# Altium footprint library default.PcbLib: 20 footprints (part 2 of 2)
Each footprint in its own frame and in the unit in brackets; x right, y up, seen from the top. Pads: shape width x height; smd on the part's side, far side on the other; paste and mask are expansions set on the pad; w line width, h text height; cw(c..) or ccw(c..) is an arc to the next point about the centre after c.
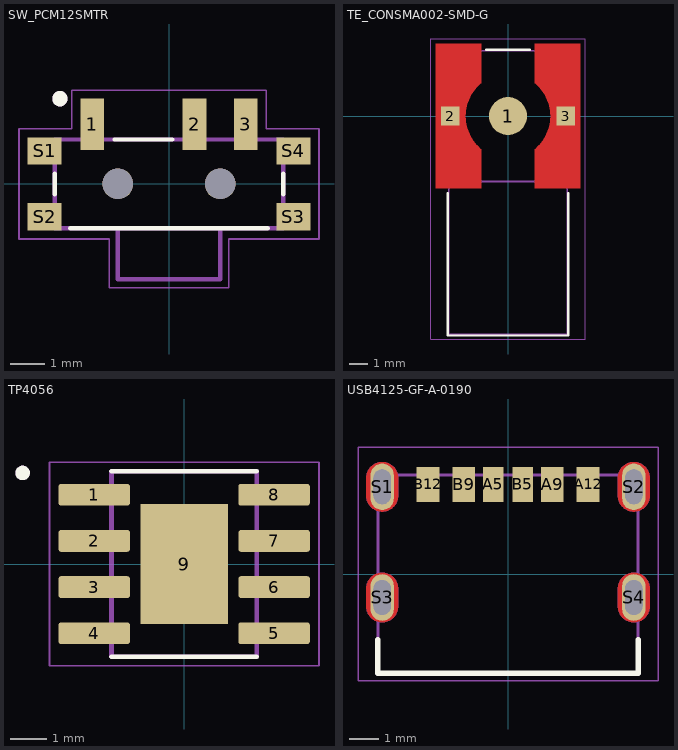
[diagram p1: the footprints below, top view; thin cyan lines are the x and y axes]

## SW_PCM12SMTR [mm]
pads (9):
  rect 0.7x1.5 smd: 1(-2.25,1.75) 2(0.75,1.75) 3(2.25,1.75)
  rect 1x0.8 smd: S1(-3.65,0.965) S2(-3.65,-0.965) S3(3.65,-0.965) S4(3.65,0.965)
  round 0.9 hole 0.9 unplated: ""(-1.5,0) ""(1.5,0)
Top Overlay:
  circle w0.25: c-3.2,2.5 r0.1
  lines w0.127: -3.35,-0.3 -3.35,0.3 ; -2.9,-1.3 2.9,-1.3 ; -1.6,1.3 0.1,1.3 ; 3.35,-0.3 3.35,0.3
Top 3D Body (Mech13):
  circle w0.25: c-3.2,2.5 r0.1
  lines w0.127: -1.5,-1.3 -1.5,-2.8 1.5,-2.8 1.5,-1.3 ; -1.5,-1.3 -3.35,-1.3 -3.35,1.3 3.35,1.3 3.35,-1.3 1.5,-1.3 ; -1.5,-1.3 1.5,-1.3
Top Courtyard:
  lines w0.05: -4.4,-1.615 -4.4,1.615 -2.85,1.615 -2.85,2.75 2.85,2.75 2.85,1.615 4.4,1.615 4.4,-1.615 1.75,-1.615 1.75,-3.05 -1.75,-3.05 -1.75,-1.615 -4.4,-1.615
3D body "step_temp.STEP": height 1.4, standoff -0.51, extent -3.861,-2.794 3.861,2.184

## TE_CONSMA002-SMD-G [mm]
pads (3):
  round 2.05 smd: 1(0,0)
  rect 1x1 smd paste-1 mask+0: 2(-3.1,0) 3(3.1,0)
Top Layer:
  region: -1.44,1.77 -1.503,1.716 -1.553,1.67 -1.601,1.623 -1.648,1.575 -1.694,1.525 -1.738,1.474 -1.78,1.422 -1.821,1.368 -1.861,1.314 -1.899,1.258 -1.935,1.201 -1.97,1.143 -2.002,1.084 -2.033,1.025 -2.063,0.964 -2.09,0.902 -2.116,0.84 -2.14,0.777 -2.162,0.713 -2.183,0.649 -2.201,0.584 -2.218,0.519 -2.232,0.453 -2.245,0.387 -2.256,0.32 -2.264,0.253 -2.271,0.186 -2.276,0.119 -2.279,0.052 -2.28,0 -2.279,-0.052 -2.276,-0.119 -2.271,-0.186 -2.264,-0.253 -2.256,-0.32 -2.245,-0.387 -2.232,-0.453 -2.218,-0.519 -2.201,-0.584 -2.183,-0.649 -2.162,-0.713 -2.14,-0.777 -2.116,-0.84 -2.09,-0.902 -2.063,-0.964 -2.033,-1.025 -2.002,-1.084 -1.97,-1.143 -1.935,-1.201 -1.899,-1.258 -1.861,-1.314 -1.821,-1.368 -1.78,-1.422 -1.738,-1.474 -1.694,-1.525 -1.648,-1.575 -1.601,-1.623 -1.553,-1.67 -1.503,-1.716 -1.44,-1.77 -1.44,-3.88 -3.88,-3.88 -3.88,3.88 -1.44,3.88
  region: 3.88,-3.88 1.44,-3.88 1.44,-1.77 1.503,-1.716 1.553,-1.67 1.601,-1.623 1.648,-1.575 1.694,-1.525 1.738,-1.474 1.78,-1.422 1.821,-1.368 1.861,-1.314 1.899,-1.258 1.935,-1.201 1.97,-1.143 2.002,-1.084 2.033,-1.025 2.063,-0.964 2.09,-0.902 2.116,-0.84 2.14,-0.777 2.162,-0.713 2.183,-0.649 2.201,-0.584 2.218,-0.519 2.232,-0.453 2.245,-0.387 2.256,-0.32 2.264,-0.253 2.271,-0.186 2.276,-0.119 2.279,-0.052 2.28,0 2.279,0.052 2.276,0.119 2.271,0.186 2.264,0.253 2.256,0.32 2.245,0.387 2.232,0.453 2.218,0.519 2.201,0.584 2.183,0.649 2.162,0.713 2.14,0.777 2.116,0.84 2.09,0.902 2.063,0.964 2.033,1.025 2.002,1.084 1.97,1.143 1.935,1.201 1.899,1.258 1.861,1.314 1.821,1.368 1.78,1.422 1.738,1.474 1.694,1.525 1.648,1.575 1.601,1.623 1.553,1.67 1.503,1.716 1.44,1.77 1.44,2.35 1.44,3.88 3.88,3.88
Top Overlay:
  lines w0.127: -3.238,-4.143 -3.238,-11.763 3.238,-11.763 3.238,-4.143 ; -1.177,3.564 1.177,3.564
Top Paste:
  region: -1.44,1.77 -1.503,1.716 -1.553,1.67 -1.601,1.623 -1.648,1.575 -1.694,1.525 -1.738,1.474 -1.78,1.422 -1.821,1.368 -1.861,1.314 -1.899,1.258 -1.935,1.201 -1.97,1.143 -2.002,1.084 -2.033,1.025 -2.063,0.964 -2.09,0.902 -2.116,0.84 -2.14,0.777 -2.162,0.713 -2.183,0.649 -2.201,0.584 -2.218,0.519 -2.232,0.453 -2.245,0.387 -2.256,0.32 -2.264,0.253 -2.271,0.186 -2.276,0.119 -2.279,0.052 -2.28,0 -2.279,-0.052 -2.276,-0.119 -2.271,-0.186 -2.264,-0.253 -2.256,-0.32 -2.245,-0.387 -2.232,-0.453 -2.218,-0.519 -2.201,-0.584 -2.183,-0.649 -2.162,-0.713 -2.14,-0.777 -2.116,-0.84 -2.09,-0.902 -2.063,-0.964 -2.033,-1.025 -2.002,-1.084 -1.97,-1.143 -1.935,-1.201 -1.899,-1.258 -1.861,-1.314 -1.821,-1.368 -1.78,-1.422 -1.738,-1.474 -1.694,-1.525 -1.648,-1.575 -1.601,-1.623 -1.553,-1.67 -1.503,-1.716 -1.44,-1.77 -1.44,-3.88 -3.88,-3.88 -3.88,3.88 -1.44,3.88
  region: 3.88,-3.88 1.44,-3.88 1.44,-1.77 1.503,-1.716 1.553,-1.67 1.601,-1.623 1.648,-1.575 1.694,-1.525 1.738,-1.474 1.78,-1.422 1.821,-1.368 1.861,-1.314 1.899,-1.258 1.935,-1.201 1.97,-1.143 2.002,-1.084 2.033,-1.025 2.063,-0.964 2.09,-0.902 2.116,-0.84 2.14,-0.777 2.162,-0.713 2.183,-0.649 2.201,-0.584 2.218,-0.519 2.232,-0.453 2.245,-0.387 2.256,-0.32 2.264,-0.253 2.271,-0.186 2.276,-0.119 2.279,-0.052 2.28,0 2.279,0.052 2.276,0.119 2.271,0.186 2.264,0.253 2.256,0.32 2.245,0.387 2.232,0.453 2.218,0.519 2.201,0.584 2.183,0.649 2.162,0.713 2.14,0.777 2.116,0.84 2.09,0.902 2.063,0.964 2.033,1.025 2.002,1.084 1.97,1.143 1.935,1.201 1.899,1.258 1.861,1.314 1.821,1.368 1.78,1.422 1.738,1.474 1.694,1.525 1.648,1.575 1.601,1.623 1.553,1.67 1.503,1.716 1.44,1.77 1.44,3.88 3.88,3.88
Top Solder:
  region: -1.34,1.77 -1.385,1.731 -1.436,1.684 -1.485,1.636 -1.533,1.587 -1.58,1.536 -1.625,1.484 -1.669,1.43 -1.711,1.375 -1.751,1.32 -1.79,1.262 -1.827,1.204 -1.862,1.145 -1.896,1.085 -1.928,1.024 -1.958,0.962 -1.986,0.899 -2.012,0.835 -2.037,0.77 -2.06,0.705 -2.08,0.639 -2.099,0.573 -2.116,0.506 -2.131,0.439 -2.144,0.371 -2.155,0.303 -2.164,0.235 -2.171,0.166 -2.176,0.097 -2.179,0.028 -2.18,-0.05 -2.176,-0.126 -2.171,-0.19 -2.164,-0.254 -2.156,-0.318 -2.145,-0.381 -2.133,-0.444 -2.118,-0.507 -2.102,-0.569 -2.084,-0.631 -2.065,-0.692 -2.043,-0.753 -2.02,-0.813 -1.995,-0.872 -1.968,-0.931 -1.94,-0.988 -1.91,-1.045 -1.878,-1.101 -1.845,-1.156 -1.81,-1.21 -1.774,-1.263 -1.736,-1.315 -1.696,-1.366 -1.655,-1.416 -1.613,-1.464 -1.569,-1.511 -1.524,-1.557 -1.478,-1.602 -1.43,-1.645 -1.381,-1.687 -1.34,-1.72 -1.34,-3.98 -3.98,-3.98 -3.98,3.98 -1.34,3.98
  region: 3.98,-3.98 1.34,-3.98 1.34,-1.72 1.391,-1.677 1.441,-1.633 1.489,-1.588 1.536,-1.542 1.581,-1.494 1.625,-1.445 1.667,-1.395 1.708,-1.343 1.748,-1.29 1.786,-1.237 1.822,-1.182 1.857,-1.126 1.89,-1.069 1.921,-1.011 1.951,-0.952 1.979,-0.892 2.005,-0.832 2.03,-0.771 2.053,-0.709 2.074,-0.647 2.093,-0.584 2.11,-0.52 2.125,-0.456 2.139,-0.391 2.15,-0.327 2.16,-0.261 2.168,-0.196 2.174,-0.13 2.178,-0.065 2.18,0 2.179,0.052 2.176,0.119 2.171,0.186 2.164,0.253 2.156,0.32 2.145,0.387 2.132,0.453 2.118,0.519 2.101,0.584 2.083,0.649 2.062,0.713 2.04,0.777 2.016,0.84 1.99,0.902 1.963,0.964 1.933,1.025 1.902,1.084 1.87,1.143 1.835,1.201 1.799,1.258 1.761,1.314 1.721,1.368 1.68,1.422 1.638,1.474 1.594,1.525 1.548,1.575 1.501,1.623 1.453,1.67 1.403,1.716 1.34,1.77 1.34,3.98 3.98,3.98
Top Assembly:
  lines w0.1: -3.175,-3.5 -3.175,-11.7 3.175,-11.7 3.175,-3.5 ; -3.175,-3.5 -3.5,-3.5 -3.5,3.5 3.5,3.5 3.5,-3.5 3.175,-3.5 ; -3.175,-3.5 3.175,-3.5
Top Designator:
  text ".Designator" at -3.647,-0.357 h1
Top Courtyard:
  lines w0.05: -4.13,-11.95 4.13,-11.95 4.13,4.13 -4.13,4.13 -4.13,-11.95
Top Component Center:
  lines w0.1: -0.5,0 0.5,0 ; 0,-0.5 0,0.5
3D body "step_temp.STEP": height 10.8, standoff 0, extent -3.5,-11.7 3.5,3.5

## TP4056 [mm] "TP4056"
height 1.75
pads (9):
  rrect25% 1.97x0.6 smd: 1(-2.475,1.905) 2(-2.475,0.635) 3(-2.475,-0.635) 4(-2.475,-1.905) 5(2.475,-1.905) 6(2.475,-0.635) 7(2.475,0.635) 8(2.475,1.905)
  rect 2.413x3.302 smd paste-3: 9(0,0)
Top Overlay:
  circle w0.2: c-4.445,2.505 r0.1
  lines w0.127: -2,-2.55 2,-2.55 ; -2,2.55 2,2.55
Top Paste:
  region: 0.645,-0.82 -0.645,-0.82 -0.645,0.82 0.645,0.82
Top 3D Body (Mech13):
  circle w0.2: c-4.445,2.505 r0.1
  lines w0.127: -2,-2.55 2,-2.55 2,2.55 -2,2.55 -2,-2.55
Top Courtyard:
  lines w0.05: -3.71,-2.8 3.71,-2.8 3.71,2.8 -3.71,2.8 -3.71,-2.8
3D body "step_temp.STEP": height 1.75, standoff 0, extent -3,-2.45 3,2.45

## USB4125-GF-A-0190 [mm] "USB C CONNECTOR"
pads (10):
  rect 0.7x1.2 smd: A5(-0.5,3.08) B5(0.5,3.08)
  rect 0.76x1.2 smd: A9(1.52,3.08) B9(-1.52,3.08)
  rect 0.8x1.2 smd: A12(2.75,3.08) B12(-2.75,3.08)
  oval 0.8x1.6 hole 0.6 slot 1.2 at 90 deg mask+0: S1(-4.32,3) S2(4.32,3) S3(-4.32,-0.8) S4(4.32,-0.8)
Top Layer:
  region: -4.291,0.049 -4.263,0.047 -4.234,0.043 -4.206,0.038 -4.178,0.031 -4.15,0.023 -4.123,0.013 -4.096,0.002 -4.07,-0.01 -4.045,-0.024 -4.02,-0.039 -3.997,-0.055 -3.974,-0.073 -3.952,-0.091 -3.931,-0.111 -3.911,-0.132 -3.893,-0.154 -3.875,-0.177 -3.859,-0.2 -3.844,-0.225 -3.83,-0.25 -3.818,-0.276 -3.807,-0.303 -3.797,-0.33 -3.789,-0.358 -3.782,-0.386 -3.777,-0.414 -3.773,-0.443 -3.771,-0.471 -3.77,-0.5 -3.77,-1.1 -3.771,-1.129 -3.773,-1.157 -3.777,-1.186 -3.782,-1.214 -3.789,-1.242 -3.797,-1.27 -3.807,-1.297 -3.818,-1.324 -3.83,-1.35 -3.844,-1.375 -3.859,-1.4 -3.875,-1.423 -3.893,-1.446 -3.911,-1.468 -3.931,-1.489 -3.952,-1.509 -3.974,-1.527 -3.997,-1.545 -4.02,-1.561 -4.045,-1.576 -4.07,-1.59 -4.096,-1.602 -4.123,-1.613 -4.15,-1.623 -4.178,-1.631 -4.206,-1.638 -4.234,-1.643 -4.263,-1.647 -4.291,-1.649 -4.32,-1.65 -4.349,-1.649 -4.377,-1.647 -4.406,-1.643 -4.434,-1.638 -4.462,-1.631 -4.49,-1.623 -4.517,-1.613 -4.544,-1.602 -4.57,-1.59 -4.595,-1.576 -4.62,-1.561 -4.643,-1.545 -4.666,-1.527 -4.688,-1.509 -4.709,-1.489 -4.729,-1.468 -4.747,-1.446 -4.765,-1.423 -4.781,-1.4 -4.796,-1.375 -4.81,-1.35 -4.822,-1.324 -4.833,-1.297 -4.843,-1.27 -4.851,-1.242 -4.858,-1.214 -4.863,-1.186 -4.867,-1.157 -4.869,-1.129 -4.87,-1.1 -4.87,-0.5 -4.869,-0.471 -4.867,-0.443 -4.863,-0.414 -4.858,-0.386 -4.851,-0.358 -4.843,-0.33 -4.833,-0.303 -4.822,-0.276 -4.81,-0.25 -4.796,-0.225 -4.781,-0.2 -4.765,-0.177 -4.747,-0.154 -4.729,-0.132 -4.709,-0.111 -4.688,-0.091 -4.666,-0.073 -4.643,-0.055 -4.62,-0.039 -4.595,-0.024 -4.57,-0.01 -4.544,0.002 -4.517,0.013 -4.49,0.023 -4.462,0.031 -4.434,0.038 -4.406,0.043 -4.377,0.047 -4.349,0.049 -4.32,0.05
  region: 4.349,0.049 4.377,0.047 4.406,0.043 4.434,0.038 4.462,0.031 4.49,0.023 4.517,0.013 4.544,0.002 4.57,-0.01 4.595,-0.024 4.62,-0.039 4.643,-0.055 4.666,-0.073 4.688,-0.091 4.709,-0.111 4.729,-0.132 4.747,-0.154 4.765,-0.177 4.781,-0.2 4.796,-0.225 4.81,-0.25 4.822,-0.276 4.833,-0.303 4.843,-0.33 4.851,-0.358 4.858,-0.386 4.863,-0.414 4.867,-0.443 4.869,-0.471 4.87,-0.5 4.87,-1.1 4.869,-1.129 4.867,-1.157 4.863,-1.186 4.858,-1.214 4.851,-1.242 4.843,-1.27 4.833,-1.297 4.822,-1.324 4.81,-1.35 4.796,-1.375 4.781,-1.4 4.765,-1.423 4.747,-1.446 4.729,-1.468 4.709,-1.489 4.688,-1.509 4.666,-1.527 4.643,-1.545 4.62,-1.561 4.595,-1.576 4.57,-1.59 4.544,-1.602 4.517,-1.613 4.49,-1.623 4.462,-1.631 4.434,-1.638 4.406,-1.643 4.377,-1.647 4.349,-1.649 4.32,-1.65 4.291,-1.649 4.263,-1.647 4.234,-1.643 4.206,-1.638 4.178,-1.631 4.15,-1.623 4.123,-1.613 4.096,-1.602 4.07,-1.59 4.045,-1.576 4.02,-1.561 3.997,-1.545 3.974,-1.527 3.952,-1.509 3.931,-1.489 3.911,-1.468 3.893,-1.446 3.875,-1.423 3.859,-1.4 3.844,-1.375 3.83,-1.35 3.818,-1.324 3.807,-1.297 3.797,-1.27 3.789,-1.242 3.782,-1.214 3.777,-1.186 3.773,-1.157 3.771,-1.129 3.77,-1.1 3.77,-0.5 3.771,-0.471 3.773,-0.443 3.777,-0.414 3.782,-0.386 3.789,-0.358 3.797,-0.33 3.807,-0.303 3.818,-0.276 3.83,-0.25 3.844,-0.225 3.859,-0.2 3.875,-0.177 3.893,-0.154 3.911,-0.132 3.931,-0.111 3.952,-0.091 3.974,-0.073 3.997,-0.055 4.02,-0.039 4.045,-0.024 4.07,-0.01 4.096,0.002 4.123,0.013 4.15,0.023 4.178,0.031 4.206,0.038 4.234,0.043 4.263,0.047 4.291,0.049 4.32,0.05
  region: -4.291,3.849 -4.263,3.847 -4.234,3.843 -4.206,3.838 -4.178,3.831 -4.15,3.823 -4.123,3.813 -4.096,3.802 -4.07,3.79 -4.045,3.776 -4.02,3.761 -3.997,3.745 -3.974,3.727 -3.952,3.709 -3.931,3.689 -3.911,3.668 -3.893,3.646 -3.875,3.623 -3.859,3.6 -3.844,3.575 -3.83,3.55 -3.818,3.524 -3.807,3.497 -3.797,3.47 -3.789,3.442 -3.782,3.414 -3.777,3.386 -3.773,3.357 -3.771,3.329 -3.77,3.3 -3.77,2.7 -3.771,2.671 -3.773,2.643 -3.777,2.614 -3.782,2.586 -3.789,2.558 -3.797,2.53 -3.807,2.503 -3.818,2.476 -3.83,2.45 -3.844,2.425 -3.859,2.4 -3.875,2.377 -3.893,2.354 -3.911,2.332 -3.931,2.311 -3.952,2.291 -3.974,2.273 -3.997,2.255 -4.02,2.239 -4.045,2.224 -4.07,2.21 -4.096,2.198 -4.123,2.187 -4.15,2.177 -4.178,2.169 -4.206,2.162 -4.234,2.157 -4.263,2.153 -4.291,2.151 -4.32,2.15 -4.349,2.151 -4.377,2.153 -4.406,2.157 -4.434,2.162 -4.462,2.169 -4.49,2.177 -4.517,2.187 -4.544,2.198 -4.57,2.21 -4.595,2.224 -4.62,2.239 -4.643,2.255 -4.666,2.273 -4.688,2.291 -4.709,2.311 -4.729,2.332 -4.747,2.354 -4.765,2.377 -4.781,2.4 -4.796,2.425 -4.81,2.45 -4.822,2.476 -4.833,2.503 -4.843,2.53 -4.851,2.558 -4.858,2.586 -4.863,2.614 -4.867,2.643 -4.869,2.671 -4.87,2.7 -4.87,3.3 -4.869,3.329 -4.867,3.357 -4.863,3.386 -4.858,3.414 -4.851,3.442 -4.843,3.47 -4.833,3.497 -4.822,3.524 -4.81,3.55 -4.796,3.575 -4.781,3.6 -4.765,3.623 -4.747,3.646 -4.729,3.668 -4.709,3.689 -4.688,3.709 -4.666,3.727 -4.643,3.745 -4.62,3.761 -4.595,3.776 -4.57,3.79 -4.544,3.802 -4.517,3.813 -4.49,3.823 -4.462,3.831 -4.434,3.838 -4.406,3.843 -4.377,3.847 -4.349,3.849 -4.32,3.85
  region: 4.349,3.849 4.377,3.847 4.406,3.843 4.434,3.838 4.462,3.831 4.49,3.823 4.517,3.813 4.544,3.802 4.57,3.79 4.595,3.776 4.62,3.761 4.643,3.745 4.666,3.727 4.688,3.709 4.709,3.689 4.729,3.668 4.747,3.646 4.765,3.623 4.781,3.6 4.796,3.575 4.81,3.55 4.822,3.524 4.833,3.497 4.843,3.47 4.851,3.442 4.858,3.414 4.863,3.386 4.867,3.357 4.869,3.329 4.87,3.3 4.87,2.7 4.869,2.671 4.867,2.643 4.863,2.614 4.858,2.586 4.851,2.558 4.843,2.53 4.833,2.503 4.822,2.476 4.81,2.45 4.796,2.425 4.781,2.4 4.765,2.377 4.747,2.354 4.729,2.332 4.709,2.311 4.688,2.291 4.666,2.273 4.643,2.255 4.62,2.239 4.595,2.224 4.57,2.21 4.544,2.198 4.517,2.187 4.49,2.177 4.462,2.169 4.434,2.162 4.406,2.157 4.377,2.153 4.349,2.151 4.32,2.15 4.291,2.151 4.263,2.153 4.234,2.157 4.206,2.162 4.178,2.169 4.15,2.177 4.123,2.187 4.096,2.198 4.07,2.21 4.045,2.224 4.02,2.239 3.997,2.255 3.974,2.273 3.952,2.291 3.931,2.311 3.911,2.332 3.893,2.354 3.875,2.377 3.859,2.4 3.844,2.425 3.83,2.45 3.818,2.476 3.807,2.503 3.797,2.53 3.789,2.558 3.782,2.586 3.777,2.614 3.773,2.643 3.771,2.671 3.77,2.7 3.77,3.3 3.771,3.329 3.773,3.357 3.777,3.386 3.782,3.414 3.789,3.442 3.797,3.47 3.807,3.497 3.818,3.524 3.83,3.55 3.844,3.575 3.859,3.6 3.875,3.623 3.893,3.646 3.911,3.668 3.931,3.689 3.952,3.709 3.974,3.727 3.997,3.745 4.02,3.761 4.045,3.776 4.07,3.79 4.096,3.802 4.123,3.813 4.15,3.823 4.178,3.831 4.206,3.838 4.234,3.843 4.263,3.847 4.291,3.849 4.32,3.85
Bottom Layer:
  region: -4.291,0.049 -4.263,0.047 -4.234,0.043 -4.206,0.038 -4.178,0.031 -4.15,0.023 -4.123,0.013 -4.096,0.002 -4.07,-0.01 -4.045,-0.024 -4.02,-0.039 -3.997,-0.055 -3.974,-0.073 -3.952,-0.091 -3.931,-0.111 -3.911,-0.132 -3.893,-0.154 -3.875,-0.177 -3.859,-0.2 -3.844,-0.225 -3.83,-0.25 -3.818,-0.276 -3.807,-0.303 -3.797,-0.33 -3.789,-0.358 -3.782,-0.386 -3.777,-0.414 -3.773,-0.443 -3.771,-0.471 -3.77,-0.5 -3.77,-1.1 -3.771,-1.129 -3.773,-1.157 -3.777,-1.186 -3.782,-1.214 -3.789,-1.242 -3.797,-1.27 -3.807,-1.297 -3.818,-1.324 -3.83,-1.35 -3.844,-1.375 -3.859,-1.4 -3.875,-1.423 -3.893,-1.446 -3.911,-1.468 -3.931,-1.489 -3.952,-1.509 -3.974,-1.527 -3.997,-1.545 -4.02,-1.561 -4.045,-1.576 -4.07,-1.59 -4.096,-1.602 -4.123,-1.613 -4.15,-1.623 -4.178,-1.631 -4.206,-1.638 -4.234,-1.643 -4.263,-1.647 -4.291,-1.649 -4.32,-1.65 -4.349,-1.649 -4.377,-1.647 -4.406,-1.643 -4.434,-1.638 -4.462,-1.631 -4.49,-1.623 -4.517,-1.613 -4.544,-1.602 -4.57,-1.59 -4.595,-1.576 -4.62,-1.561 -4.643,-1.545 -4.666,-1.527 -4.688,-1.509 -4.709,-1.489 -4.729,-1.468 -4.747,-1.446 -4.765,-1.423 -4.781,-1.4 -4.796,-1.375 -4.81,-1.35 -4.822,-1.324 -4.833,-1.297 -4.843,-1.27 -4.851,-1.242 -4.858,-1.214 -4.863,-1.186 -4.867,-1.157 -4.869,-1.129 -4.87,-1.1 -4.87,-0.5 -4.869,-0.471 -4.867,-0.443 -4.863,-0.414 -4.858,-0.386 -4.851,-0.358 -4.843,-0.33 -4.833,-0.303 -4.822,-0.276 -4.81,-0.25 -4.796,-0.225 -4.781,-0.2 -4.765,-0.177 -4.747,-0.154 -4.729,-0.132 -4.709,-0.111 -4.688,-0.091 -4.666,-0.073 -4.643,-0.055 -4.62,-0.039 -4.595,-0.024 -4.57,-0.01 -4.544,0.002 -4.517,0.013 -4.49,0.023 -4.462,0.031 -4.434,0.038 -4.406,0.043 -4.377,0.047 -4.349,0.049 -4.32,0.05
  region: 4.349,0.049 4.377,0.047 4.406,0.043 4.434,0.038 4.462,0.031 4.49,0.023 4.517,0.013 4.544,0.002 4.57,-0.01 4.595,-0.024 4.62,-0.039 4.643,-0.055 4.666,-0.073 4.688,-0.091 4.709,-0.111 4.729,-0.132 4.747,-0.154 4.765,-0.177 4.781,-0.2 4.796,-0.225 4.81,-0.25 4.822,-0.276 4.833,-0.303 4.843,-0.33 4.851,-0.358 4.858,-0.386 4.863,-0.414 4.867,-0.443 4.869,-0.471 4.87,-0.5 4.87,-1.1 4.869,-1.129 4.867,-1.157 4.863,-1.186 4.858,-1.214 4.851,-1.242 4.843,-1.27 4.833,-1.297 4.822,-1.324 4.81,-1.35 4.796,-1.375 4.781,-1.4 4.765,-1.423 4.747,-1.446 4.729,-1.468 4.709,-1.489 4.688,-1.509 4.666,-1.527 4.643,-1.545 4.62,-1.561 4.595,-1.576 4.57,-1.59 4.544,-1.602 4.517,-1.613 4.49,-1.623 4.462,-1.631 4.434,-1.638 4.406,-1.643 4.377,-1.647 4.349,-1.649 4.32,-1.65 4.291,-1.649 4.263,-1.647 4.234,-1.643 4.206,-1.638 4.178,-1.631 4.15,-1.623 4.123,-1.613 4.096,-1.602 4.07,-1.59 4.045,-1.576 4.02,-1.561 3.997,-1.545 3.974,-1.527 3.952,-1.509 3.931,-1.489 3.911,-1.468 3.893,-1.446 3.875,-1.423 3.859,-1.4 3.844,-1.375 3.83,-1.35 3.818,-1.324 3.807,-1.297 3.797,-1.27 3.789,-1.242 3.782,-1.214 3.777,-1.186 3.773,-1.157 3.771,-1.129 3.77,-1.1 3.77,-0.5 3.771,-0.471 3.773,-0.443 3.777,-0.414 3.782,-0.386 3.789,-0.358 3.797,-0.33 3.807,-0.303 3.818,-0.276 3.83,-0.25 3.844,-0.225 3.859,-0.2 3.875,-0.177 3.893,-0.154 3.911,-0.132 3.931,-0.111 3.952,-0.091 3.974,-0.073 3.997,-0.055 4.02,-0.039 4.045,-0.024 4.07,-0.01 4.096,0.002 4.123,0.013 4.15,0.023 4.178,0.031 4.206,0.038 4.234,0.043 4.263,0.047 4.291,0.049 4.32,0.05
  region: -4.291,3.849 -4.263,3.847 -4.234,3.843 -4.206,3.838 -4.178,3.831 -4.15,3.823 -4.123,3.813 -4.096,3.802 -4.07,3.79 -4.045,3.776 -4.02,3.761 -3.997,3.745 -3.974,3.727 -3.952,3.709 -3.931,3.689 -3.911,3.668 -3.893,3.646 -3.875,3.623 -3.859,3.6 -3.844,3.575 -3.83,3.55 -3.818,3.524 -3.807,3.497 -3.797,3.47 -3.789,3.442 -3.782,3.414 -3.777,3.386 -3.773,3.357 -3.771,3.329 -3.77,3.3 -3.77,2.7 -3.771,2.671 -3.773,2.643 -3.777,2.614 -3.782,2.586 -3.789,2.558 -3.797,2.53 -3.807,2.503 -3.818,2.476 -3.83,2.45 -3.844,2.425 -3.859,2.4 -3.875,2.377 -3.893,2.354 -3.911,2.332 -3.931,2.311 -3.952,2.291 -3.974,2.273 -3.997,2.255 -4.02,2.239 -4.045,2.224 -4.07,2.21 -4.096,2.198 -4.123,2.187 -4.15,2.177 -4.178,2.169 -4.206,2.162 -4.234,2.157 -4.263,2.153 -4.291,2.151 -4.32,2.15 -4.349,2.151 -4.377,2.153 -4.406,2.157 -4.434,2.162 -4.462,2.169 -4.49,2.177 -4.517,2.187 -4.544,2.198 -4.57,2.21 -4.595,2.224 -4.62,2.239 -4.643,2.255 -4.666,2.273 -4.688,2.291 -4.709,2.311 -4.729,2.332 -4.747,2.354 -4.765,2.377 -4.781,2.4 -4.796,2.425 -4.81,2.45 -4.822,2.476 -4.833,2.503 -4.843,2.53 -4.851,2.558 -4.858,2.586 -4.863,2.614 -4.867,2.643 -4.869,2.671 -4.87,2.7 -4.87,3.3 -4.869,3.329 -4.867,3.357 -4.863,3.386 -4.858,3.414 -4.851,3.442 -4.843,3.47 -4.833,3.497 -4.822,3.524 -4.81,3.55 -4.796,3.575 -4.781,3.6 -4.765,3.623 -4.747,3.646 -4.729,3.668 -4.709,3.689 -4.688,3.709 -4.666,3.727 -4.643,3.745 -4.62,3.761 -4.595,3.776 -4.57,3.79 -4.544,3.802 -4.517,3.813 -4.49,3.823 -4.462,3.831 -4.434,3.838 -4.406,3.843 -4.377,3.847 -4.349,3.849 -4.32,3.85
  region: 4.349,3.849 4.377,3.847 4.406,3.843 4.434,3.838 4.462,3.831 4.49,3.823 4.517,3.813 4.544,3.802 4.57,3.79 4.595,3.776 4.62,3.761 4.643,3.745 4.666,3.727 4.688,3.709 4.709,3.689 4.729,3.668 4.747,3.646 4.765,3.623 4.781,3.6 4.796,3.575 4.81,3.55 4.822,3.524 4.833,3.497 4.843,3.47 4.851,3.442 4.858,3.414 4.863,3.386 4.867,3.357 4.869,3.329 4.87,3.3 4.87,2.7 4.869,2.671 4.867,2.643 4.863,2.614 4.858,2.586 4.851,2.558 4.843,2.53 4.833,2.503 4.822,2.476 4.81,2.45 4.796,2.425 4.781,2.4 4.765,2.377 4.747,2.354 4.729,2.332 4.709,2.311 4.688,2.291 4.666,2.273 4.643,2.255 4.62,2.239 4.595,2.224 4.57,2.21 4.544,2.198 4.517,2.187 4.49,2.177 4.462,2.169 4.434,2.162 4.406,2.157 4.377,2.153 4.349,2.151 4.32,2.15 4.291,2.151 4.263,2.153 4.234,2.157 4.206,2.162 4.178,2.169 4.15,2.177 4.123,2.187 4.096,2.198 4.07,2.21 4.045,2.224 4.02,2.239 3.997,2.255 3.974,2.273 3.952,2.291 3.931,2.311 3.911,2.332 3.893,2.354 3.875,2.377 3.859,2.4 3.844,2.425 3.83,2.45 3.818,2.476 3.807,2.503 3.797,2.53 3.789,2.558 3.782,2.586 3.777,2.614 3.773,2.643 3.771,2.671 3.77,2.7 3.77,3.3 3.771,3.329 3.773,3.357 3.777,3.386 3.782,3.414 3.789,3.442 3.797,3.47 3.807,3.497 3.818,3.524 3.83,3.55 3.844,3.575 3.859,3.6 3.875,3.623 3.893,3.646 3.911,3.668 3.931,3.689 3.952,3.709 3.974,3.727 3.997,3.745 4.02,3.761 4.045,3.776 4.07,3.79 4.096,3.802 4.123,3.813 4.15,3.823 4.178,3.831 4.206,3.838 4.234,3.843 4.263,3.847 4.291,3.849 4.32,3.85
Top Overlay:
  lines w0.2: -4.47,-2.25 -4.47,-3.4 4.47,-3.4 4.47,-2.25
Top Solder:
  drawing of 4 lines, arcs and shapes, not listed
Bottom Solder:
  drawing of 4 lines, arcs and shapes, not listed
Top 3D Body (Mech13):
  lines w0.1: -4.47,-3.4 4.47,-3.4 4.47,3.4 -4.47,3.4 -4.47,-3.4
Top Courtyard:
  lines w0.05: -5.15,-3.65 5.15,-3.65 5.15,4.35 -5.15,4.35 -5.15,-3.65
3D body "USB4125-GF-A-0190.STEP": height 3.26, standoff -2.15, extent -4.47,-3.45 4.47,3.45